# EAGLE library part ACS772ECB-400B-PFF-T (library ACS772ECB-400B-PFF-T)
200kHz, 1.5% Max Tolerance, 100 Internal Resistance Module-alternative Current Sensor for High Current and High Voltage Applications Source: Datasheet <https://www.mouser.co.uk/datasheet/2/1115/ACS772_Datasheet-3074305.pdf>
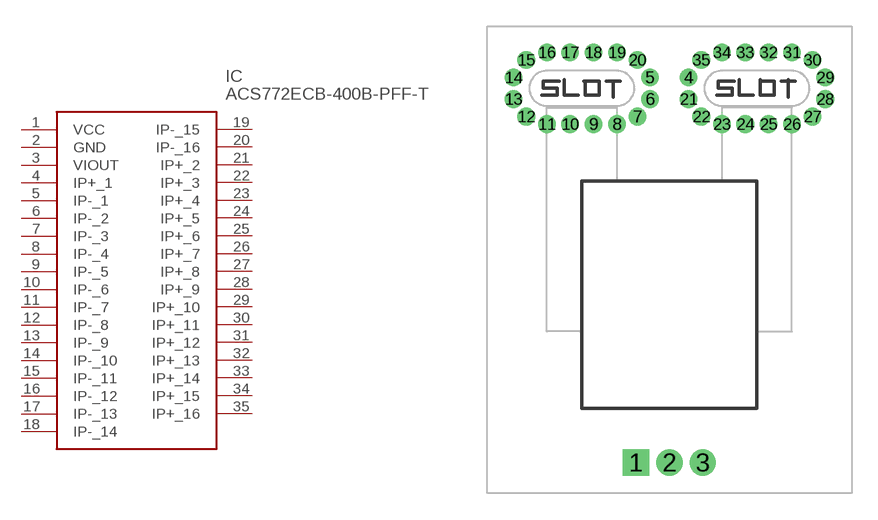
[diagram p0: symbol with the pads of ACS772ECB200BPFFT; footprint ACS772ECB200BPFFT]

Designator prefix IC

## ACS772ECB-400B-PFF-T (Description: 200kHz, 1.5% Max Tolerance, 100 Internal Resistance Module-alternative Current Sensor for High Current and High Voltage Applications; Height: 7.1mm; Manufacturer_Name: Allegro Microsystems; Manufacturer_Part_Number: ACS772ECB-400B-PFF-T; Mouser_Part_Number: 250-772ECB400BPFFT; Mouser_Price-Stock: https://www.mouser.co.uk/ProductDetail/Allegro-MicroSystems/ACS772ECB-400B-PFF-T?qs=pUKx8fyJudC33O6UrXBnUA%3D%3D)  [ACS772ECB200BPFFT]
1  VCC
2  GND
3  VIOUT
4  IP+_1
5  IP-_1
6  IP-_2
7  IP-_3
8  IP-_4
9  IP-_5
10  IP-_6
11  IP-_7
12  IP-_8
13  IP-_9
14  IP-_10
15  IP-_11
16  IP-_12
17  IP-_13
18  IP-_14
19  IP-_15
20  IP-_16
21  IP+_2
22  IP+_3
23  IP+_4
24  IP+_5
25  IP+_6
26  IP+_7
27  IP+_8
28  IP+_9
29  IP+_10
30  IP+_11
31  IP+_12
32  IP+_13
33  IP+_14
34  IP+_15
35  IP+_16

## Footprint ACS772ECB200BPFFT (pad centres in mm)
PFF_2021
drill 0.8 pad 1.5 square: 1 0,0
drill 0.8 pad 1.5: 2 1.91,0; 3 3.82,0
drill 0.5 pad 1: 4 3.008,22.018; 5 0.812,22.018; 6 0.812,20.782; 7 0.086,19.782; 8 -1.09,19.35; 9 -2.423,19.35; 10 -3.757,19.35; 11 -5.09,19.35; 12 -6.266,19.782; 13 -6.992,20.782; 14 -6.992,22.018; 15 -6.266,23.018; 16 -5.09,23.45; 17 -3.757,23.45; 18 -2.423,23.45; 19 -1.09,23.45; 20 0.086,23.018; 21 3.008,20.782; 22 3.734,19.782; 23 4.91,19.35; 24 6.243,19.35; 25 7.577,19.35; 26 8.91,19.35; 27 10.086,19.782; 28 10.812,20.782; 29 10.812,22.018; 30 10.086,23.018; 31 8.91,23.45; 32 7.577,23.45; 33 6.243,23.45; 34 4.91,23.45; 35 3.734,23.018